# EAGLE library part MP2607DL-LF-P (library MP2607DL-LF-P)
Battery Management Li-ion charger with power path mgt Source: Datasheet <https://datasheet.datasheetarchive.com/originals/distributors/Datasheets_SAMA/cf35f87142b6432f3ab3452bd28a6ce4.pdf>
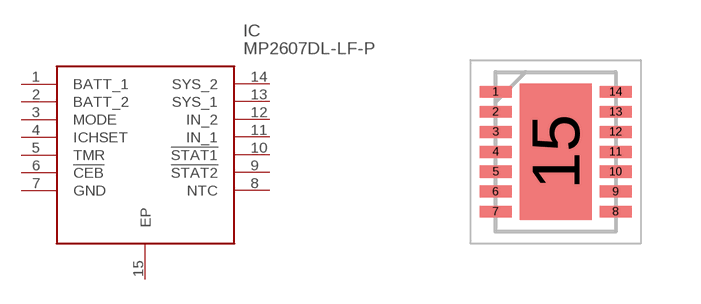
[diagram p0: symbol with the pads of SON50P300X400X100-15N; footprint SON50P300X400X100-15N]

Designator prefix IC

## MP2607DL-LF-P (Description: Battery Management Li-ion charger with power path mgt; Height: 1mm; Manufacturer_Name: Monolithic Power Systems (MPS); Manufacturer_Part_Number: MP2607DL-LF-P; Mouser_Part_Number: 946-MP2607DLLFP; Mouser_Price-Stock: https://www.mouser.co.uk/ProductDetail/Monolithic-Power-Systems-MPS/MP2607DL-LF-P?qs=rC7bBWoQAAnJmm%2FXXj7MHA%3D%3D)  [SON50P300X400X100-15N]
1  BATT_1
2  BATT_2
3  MODE
4  ICHSET
5  TMR
6  !CEB
7  GND
8  NTC
9  !STAT2
10  !STAT1
11  IN_1
12  IN_2
13  SYS_1
14  SYS_2
15  EP

## Footprint SON50P300X400X100-15N (pad centres in mm)
QFN 14 (3mm x 4mm)
smd 0.8 x 0.3: 1 -1.5,1.5; 2 -1.5,1; 3 -1.5,0.5; 4 -1.5,0; 5 -1.5,-0.5; 6 -1.5,-1; 7 -1.5,-1.5; 8 1.5,-1.5; 9 1.5,-1; 10 1.5,-0.5; 11 1.5,0; 12 1.5,0.5; 13 1.5,1; 14 1.5,1.5
smd 1.8 x 3.4: 15 0,0